# EAGLE library part ATMEL-JTAG (library SteveMarple)
ATMEL JTAG header
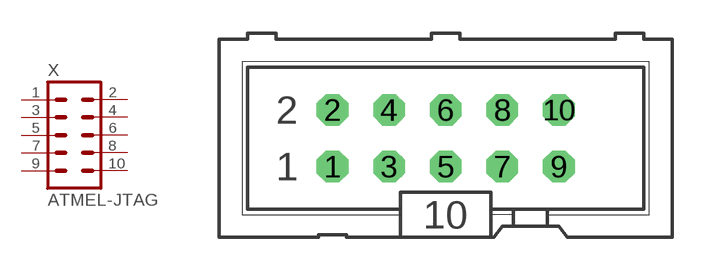
[diagram p2: symbol with the pads of CON-HARTING-ML10; footprint CON-HARTING-ML10]

Designator prefix X

## ATMEL-JTAG  [CON-HARTING-ML10]
1  TCK
2  GND  pwr
3  TDO
4  VTREF
5  TMS
6  !SRST
7  NC  nc
8  NC  nc
9  TDI
10  GND  pwr

## Footprint CON-HARTING-ML10 (pad centres in mm)
drill 0.914 octagon: 1 -5.08,-1.27; 2 -5.08,1.27; 3 -2.54,-1.27; 4 -2.54,1.27; 5 0,-1.27; 6 0,1.27; 7 2.54,-1.27; 8 2.54,1.27; 9 5.08,-1.27; 10 5.08,1.27